# Altium footprint library SparkFun-Connectors.PCBLIB: 327 footprints (part 16 of 21)
Each footprint in its own frame and in the unit in brackets; x right, y up, seen from the top. Pads: shape width x height; smd on the part's side, far side on the other; paste and mask are expansions set on the pad; w line width, h text height; cw(c..) or ccw(c..) is an arc to the next point about the centre after c.
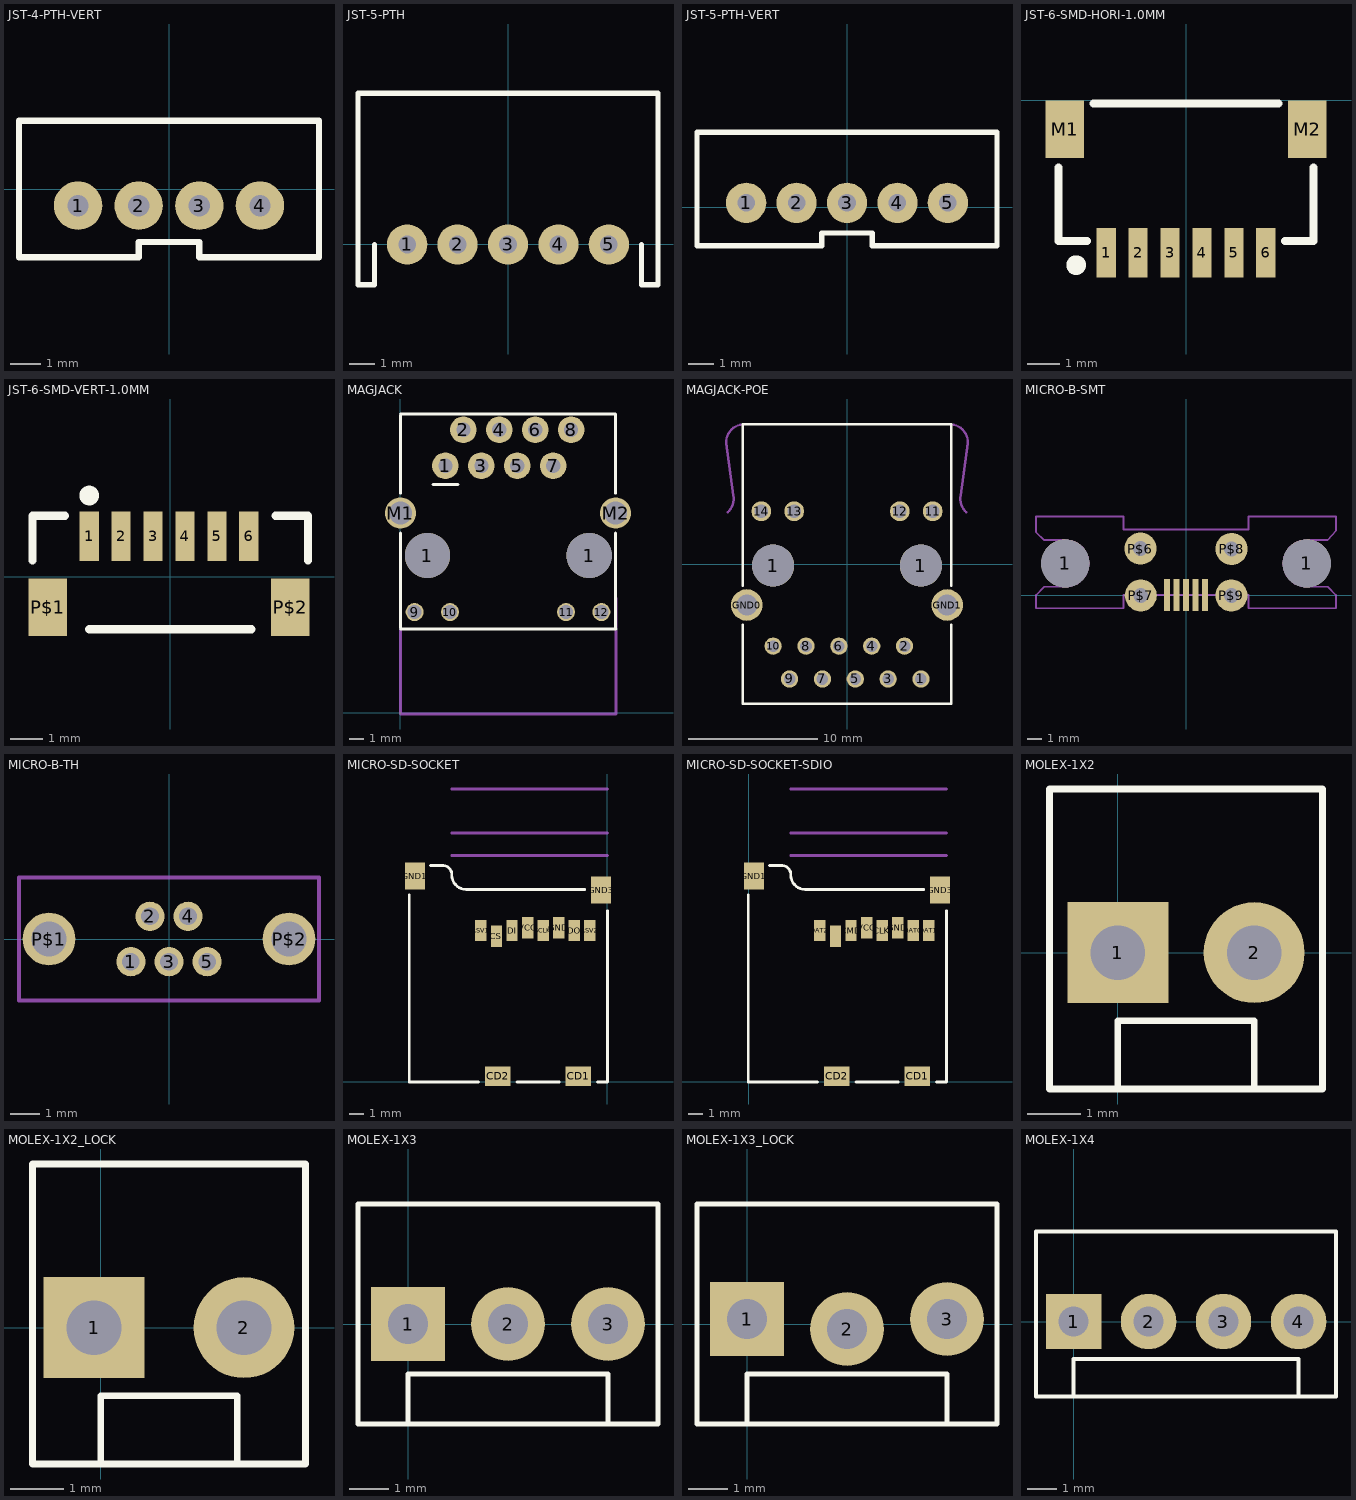
[diagram p15: the footprints below, top view; thin cyan lines are the x and y axes]

## JST-4-PTH-VERT [mm]
pads (4):
  round 1.6 hole 0.7: 1(-3,-0.55) 2(-1,-0.55) 3(1,-0.55) 4(3,-0.55)
Top Overlay:
  lines w0.203: -4.95,-2.25 -4.95,2.25 4.95,2.25 4.95,-2.25 1,-2.25 1,-1.75 -1,-1.75 -1,-2.25 -4.95,-2.25
Mechanical 16:
  text "+" at -1.4,0.75 h1.97
  text "-" at 0.6,0.75 h1.97
  text "Y" at 2.7,0.95 h1.24
  text "B" at -3.3,0.95 h1.24

## JST-5-PTH [mm]
pads (5):
  round 1.6 hole 0.7: 1(-4,0) 2(-2,0) 3(0,0) 4(2,0) 5(4,0)
Top Overlay:
  lines w0.203: -5.3,0 -5.3,-1.6 -5.95,-1.6 -5.95,6 5.95,6 5.95,-1.6 5.3,-1.6 5.3,0

## JST-5-PTH-VERT [mm]
pads (5):
  round 1.6 hole 0.7: 1(-4,0.18) 2(-2,0.18) 3(0,0.18) 4(2,0.18) 5(4,0.18)
Top Overlay:
  lines w0.203: -5.95,-1.52 -5.95,2.98 5.95,2.98 5.95,-1.52 1,-1.52 1,-1.02 -1,-1.02 -1,-1.52 -5.95,-1.52

## JST-6-SMD-HORI-1.0MM [mil]
pads (8):
  rect 23.62x61.02 smd: 1(-98.43,-187.99) 2(-59.06,-187.99) 3(-19.69,-187.99) 4(19.69,-187.99) 5(59.06,-187.99) 6(98.43,-187.99)
  rect 47.24x70.87 smd: M1(-149.61,-35.43) M2(149.61,-35.43)
Top Overlay:
  circle w16: c-135.43,-203.15 r4.12
  lines w10: -157.48,-82.68 -157.48,-173.23 -122.05,-173.23 ; -114.17,-3.94 114.17,-3.94 ; 122.05,-173.23 157.48,-173.23 157.48,-82.68

## JST-6-SMD-VERT-1.0MM [mm]
pads (8):
  rect 0.6x1.55 smd: 1(-2.54,1.27) 2(-1.54,1.27) 3(-0.54,1.27) 4(0.46,1.27) 5(1.46,1.27) 6(2.46,1.27)
  rect 1.2x1.8 smd: P$1(-3.84,-0.955) P$2(3.76,-0.955)
Top Overlay:
  circle w0.406: c-2.54,2.54 r0.105
  lines w0.254: -4.318,0.508 -4.318,1.905 -3.302,1.905 ; -2.54,-1.651 2.54,-1.651 ; 3.302,1.905 4.318,1.905 4.318,0.508

## MAGJACK [mil]
pads (16):
  round 125.98 hole 125.98: 1(75,436.81) 1(525,436.81)
  round 74 hole 39.37: 1(125,686.81) 2(175,786.81) 3(225,686.81) 4(275,786.81) 5(325,686.81) 6(375,786.81) 7(425,686.81) 8(475,786.81)
  round 50 hole 39.37: 9(39.37,279.53) 10(137.8,279.53) 11(460.63,279.53) 12(559.06,279.53)
  round 86 hole 62.99: M1(0,555.12) M2(598.43,555.12)
Top Overlay:
  lines w8: 0,232.09 600,232.09 ; 0,236.22 0,500 ; 0,610.24 0,826.77 ; 0,830.51 596.06,830.51 ; 90,635 160,635 ; 598.43,232.28 598.43,500 ; 598.43,610.24 598.43,830.71
Bottom Overlay:
  lines w8: 90,635 160,635
Mechanical 16:
  lines w8: 0,318.7 0,-4.13 600,-4.13 600,318.7

## MAGJACK-POE [mm]
pads (18):
  round 3.25 hole 3.25: 1(-5.715,-0.12) 1(5.715,-0.12)
  round 1.335 hole 0.89: 1(5.72,-8.89) 2(4.45,-6.35) 3(3.18,-8.89) 4(1.91,-6.35) 5(0.64,-8.89) 6(-0.63,-6.35) 7(-1.9,-8.89) 8(-3.17,-6.35) 9(-4.44,-8.89) 10(-5.71,-6.35)
  round 1.53 hole 1.02: 11(6.625,4.08) 12(4.085,4.08) 13(-4.085,4.08) 14(-6.625,4.08)
  round 2.445 hole 1.63: GND0(-7.745,-3.17) GND1(7.745,-3.17)
Top Overlay:
  lines w0.178: -8.05,-4.7 -8.05,-10.8 8.05,-10.8 8.05,-4.7 ; -8.05,-1.7 -8.05,10.8 8.05,10.8 8.05,-1.7
Mechanical 16:
  lines w0.178: -9.24,3.98 ccw(c-10.179,5.044) -8.787,5.319 -9.34,9.31 cw(c-7.95,9.41) -8.05,10.8 ; 8.05,10.8 cw(c7.95,9.41) 9.34,9.31 8.787,5.319 ccw(c10.179,5.044) 9.24,3.98

## MICRO-B-SMT [mil]
pads (11):
  round 129.92 hole 129.92: 1(-325.79,85.43) 1(325.79,85.43)
  rect 15.75x86.61 smd: 1(-51.18,0) 2(-25.59,0) 3(0,0) 4(25.59,0) 5(51.18,0)
  round 86.61 hole 40: P$6(-122.86,125.32) P$7(-121.97,-1.06) P$8(122.91,124.42) P$9(122.36,-1.01)
Mechanical 16:
  lines w5: -404.53,-35.43 -404.53,0 -381.89,22.44 -325.79,22.44 ccw(c-325.79,85.44) -325.79,148.43 -381.89,148.43 -404.53,169.29 -404.53,211.81 -168.31,211.81 -168.31,176.38 168.31,176.38 168.31,211.81 404.53,211.81 404.53,173.23 381.89,148.43 325.79,148.43 ccw(c325.79,85.44) 325.79,22.44 381.89,22.44 404.53,0 404.53,-35.43 168.31,-35.43 168.31,0 -168.31,0 -168.31,-35.43 -404.53,-35.43

## MICRO-B-TH [mm]
pads (7):
  round 1 hole 0.6: 1(-1.3,-0.775) 2(-0.65,0.775) 3(0,-0.775) 4(0.65,0.775) 5(1.3,-0.775)
  round 1.8 hole 1.2: P$1(-4.1,0) P$2(4.1,0)
Mechanical 16:
  lines w0.127: -5.125,-2.1 5.125,-2.1 5.125,2.1 -5.125,2.1 -5.125,-2.1

## MICRO-SD-SOCKET [mil]
pads (12):
  rect 70.87x55.12 smd: CD1(-80.71,15.75) CD2(-305.12,15.75)
  rect 31.5x59.06 smd: CS(-308.66,405.51) DI(-265.35,421.26) DO(-92.13,421.26) GND(-135.43,429.13) RSV1(-351.97,421.26) RSV2(-48.82,421.26) SCLK(-178.74,421.26) VCC(-222.05,429.13)
  rect 55.12x74.8 smd: GND1(-535.43,572.83) GND3(-17.72,533.46)
Top Overlay:
  lines w8: -551.18,519.69 -551.18,0 -358.27,0 ; -492.13,602.36 -460.63,602.36 cw(c-458.66,576.77) -433.07,574.8 ccw(c-392.72,575.78) -393.7,535.43 -62.99,535.43 ; -251.97,0 -133.86,0 ; -27.56,0 0,0 0,476.38
Mechanical 16:
  lines w8: -433.07,629.92 0,629.92 ; -433.07,692.91 0,692.91 ; -433.07,814.96 0,814.96
  text "Pressed" at 25,625 h42.5
  text "Locked" at 25,700 h42.5
  text "Unlocked" at 25,825 h42.5

## MICRO-SD-SOCKET-SDIO [mil]
pads (12):
  rect 70.87x55.12 smd: CD1(469.29,15.75) CD2(244.88,15.75)
  rect 31.5x59.06 smd: CD/DAT3(241.34,405.51) CLK(371.26,421.26) CMD(284.65,421.26) DAT0(457.87,421.26) DAT1(501.18,421.26) DAT2(198.03,421.26) GND(414.57,429.13) VCC(327.95,429.13)
  rect 55.12x74.8 smd: GND1(14.57,572.83) GND3(532.28,533.46)
Top Overlay:
  lines w8: -1.18,519.69 -1.18,0 191.73,0 ; 57.87,602.36 89.37,602.36 cw(c91.34,576.77) 116.93,574.8 ccw(c157.28,575.78) 156.3,535.43 487.01,535.43 ; 298.03,0 416.14,0 ; 522.44,0 550,0 550,476.38
Mechanical 16:
  lines w8: 116.93,629.92 550,629.92 ; 116.93,692.91 550,692.91 ; 116.93,814.96 550,814.96
  text "Pressed" at 575,625 h42.5
  text "Locked" at 575,700 h42.5
  text "Unlocked" at 575,825 h42.5

## MOLEX-1X2 [mil]
pads (2):
  rect 74x74 hole 40: 1(0,0)
  round 74 hole 40: 2(100,0)
Top Overlay:
  lines w5: 0,-100 100,-100 ; 0,-100 -50,-100 -50,120 150,120 150,-100 100,-100 ; 0,-100 0,-50 100,-50 100,-100

## MOLEX-1X2_LOCK [mil]
pads (2):
  rect 74x74 hole 40: 1(-5,0)
  round 74 hole 40: 2(105,0)
Top Overlay:
  lines w5: 0,-100 100,-100 ; 0,-100 -50,-100 -50,120 150,120 150,-100 100,-100 ; 0,-100 0,-50 100,-50 100,-100
Mechanical 16:
  rectangle: -11.5,-11.5 11.5,11.5
  rectangle: 88.5,-11.5 111.5,11.5

## MOLEX-1X3 [mil]
pads (3):
  rect 74x74 hole 40: 1(0,0)
  round 74 hole 40: 2(100,0) 3(200,0)
Top Overlay:
  lines w5: 0,-100 200,-100 ; 0,-100 -50,-100 -50,120 250,120 250,-100 200,-100 ; 0,-100 0,-50 200,-50 200,-100

## MOLEX-1X3_LOCK [mil]
pads (3):
  rect 74x74 hole 40: 1(0,5)
  round 74 hole 40: 2(100,-5) 3(200,5)
Top Overlay:
  lines w5: 0,-100 200,-100 ; 0,-100 -50,-100 -50,120 250,120 250,-100 200,-100 ; 0,-100 0,-50 200,-50 200,-100
Mechanical 16:
  rectangle: -11.5,-11.5 11.5,11.5
  rectangle: 88.5,-11.5 111.5,11.5
  rectangle: 188.5,-11.5 211.5,11.5

## MOLEX-1X4 [mil]
pads (4):
  rect 74x74 hole 40: 1(0,0)
  round 74 hole 40: 2(100,0) 3(200,0) 4(300,0)
Top Overlay:
  lines w5: 0,-100 300,-100 ; 0,-100 -50,-100 -50,120 350,120 350,-100 300,-100 ; 0,-100 0,-50 300,-50 300,-100